# Altium schematic symbol library 51Schlib.SchLib: 24 symbols
Pins are listed as number, name and electrical type; pins without a type are passive.

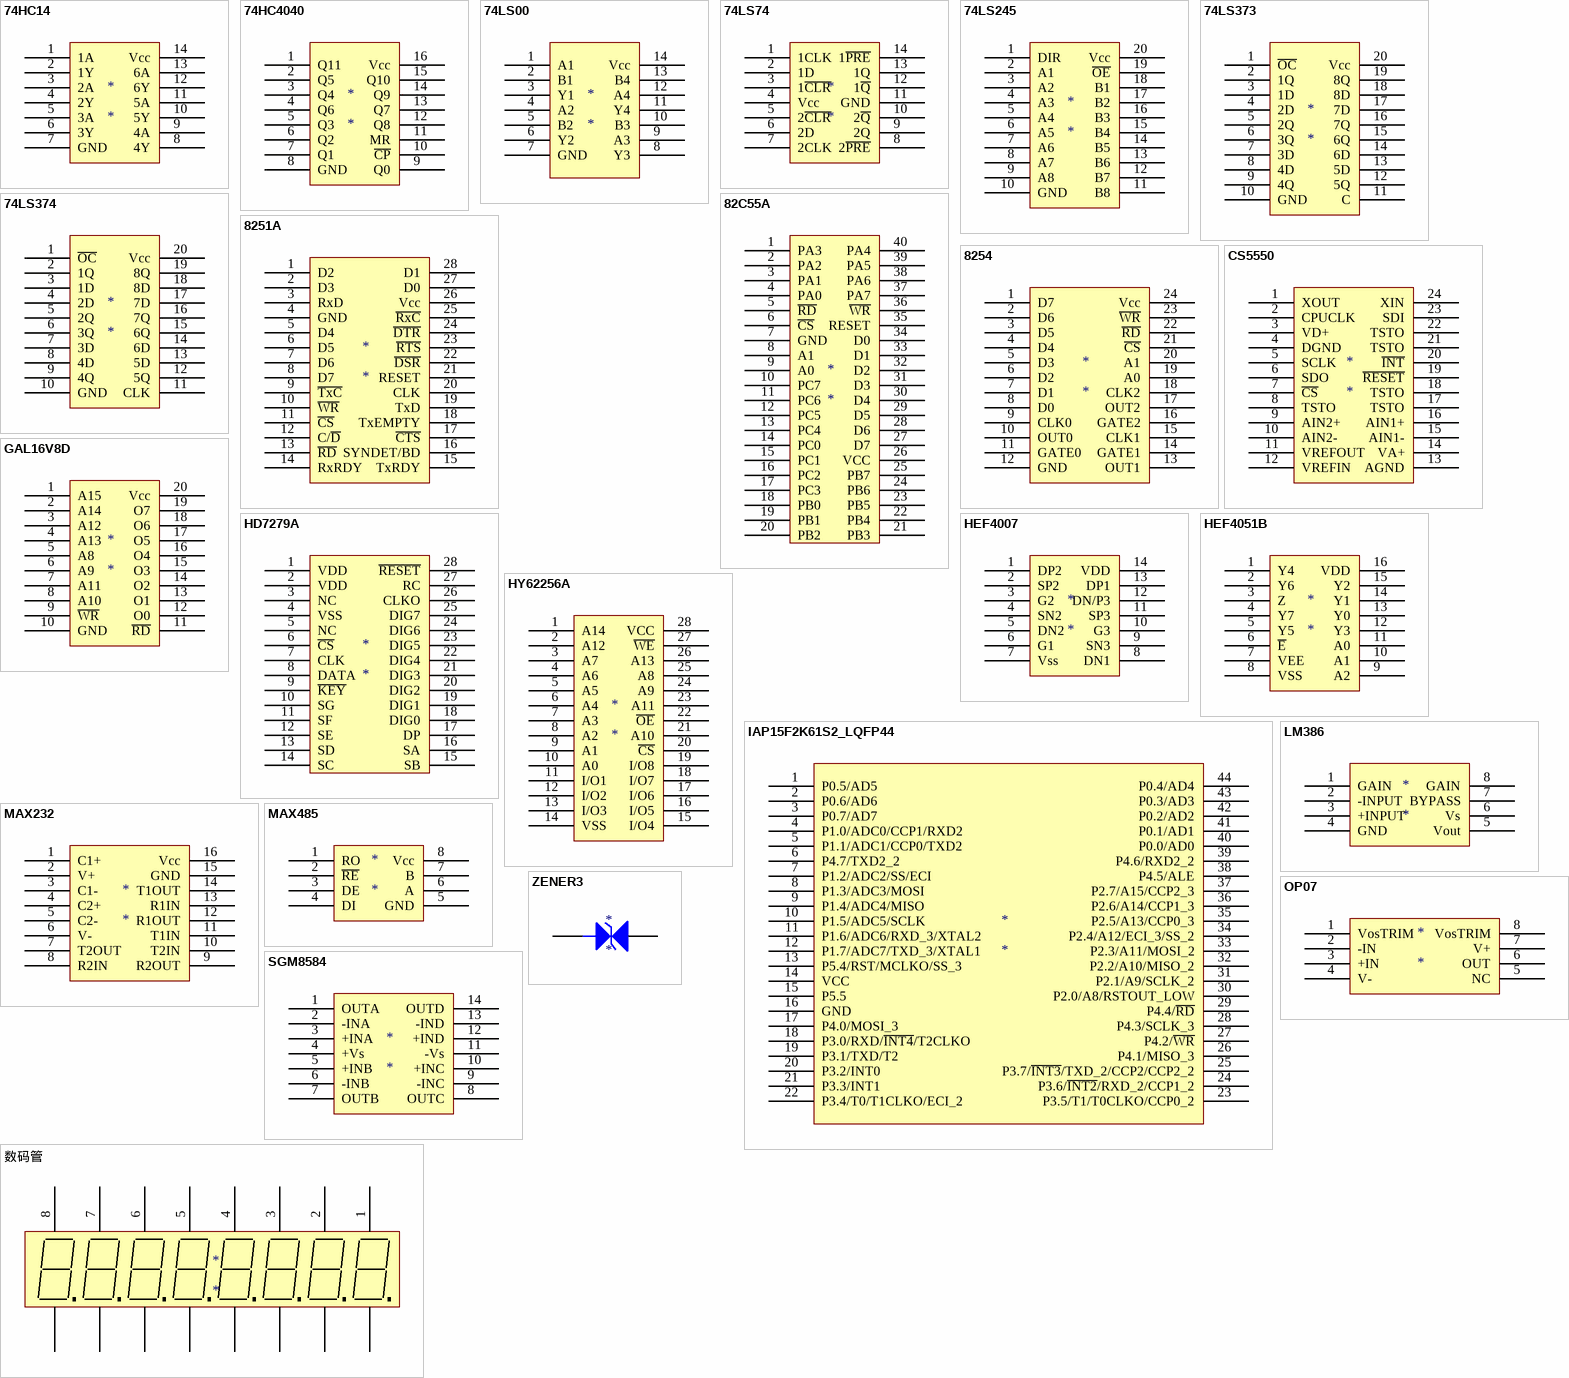
[diagram p0: symbols 74HC14 to 数码管]

## 74HC14
designator *
pins: 1 1A, 2 1Y, 3 2A, 4 2Y, 5 3A, 6 3Y, 7 GND, 8 4Y, 9 4A, 10 5Y, 11 5A, 12 6Y, 13 6A, 14 Vcc

## 74HC4040
designator *
pins: 1 Q11, 2 Q5, 3 Q4, 4 Q6, 5 Q3, 6 Q2, 7 Q1, 8 GND, 9 Q0, 10 ~{CP}, 11 MR, 12 Q8, 13 Q7, 14 Q9, 15 Q10, 16 Vcc

## 74LS00
designator *
pins: 1 A1, 2 B1, 3 Y1, 4 A2, 5 B2, 6 Y2, 7 GND, 8 Y3, 9 A3, 10 B3, 11 Y4, 12 A4, 13 B4, 14 Vcc

## 74LS74
designator *
pins: 1 1CLK, 2 1D, 3 1~{CLR}, 4 Vcc, 5 2~{CLR}, 6 2D, 7 2CLK, 8 2~{PRE}, 9 2Q, 10 2~{Q}, 11 GND, 12 1~{Q}, 13 1Q, 14 1~{PRE}

## 74LS245
designator *
pins: 1 DIR, 2 A1, 3 A2, 4 A3, 5 A4, 6 A5, 7 A6, 8 A7, 9 A8, 10 GND, 11 B8, 12 B7, 13 B6, 14 B5, 15 B4, 16 B3, 17 B2, 18 B1, 19 ~{OE}, 20 Vcc

## 74LS373
designator *
pins: 1 ~{OC}, 2 1Q, 3 1D, 4 2D, 5 2Q, 6 3Q, 7 3D, 8 4D, 9 4Q, 10 GND, 11 C, 12 5Q, 13 5D, 14 6D, 15 6Q, 16 7Q, 17 7D, 18 8D, 19 8Q, 20 Vcc

## 74LS374
designator *
pins: 1 ~{OC}, 2 1Q, 3 1D, 4 2D, 5 2Q, 6 3Q, 7 3D, 8 4D, 9 4Q, 10 GND, 11 CLK, 12 5Q, 13 5D, 14 6D, 15 6Q, 16 7Q, 17 7D, 18 8D, 19 8Q, 20 Vcc

## 82C55A
designator *
pins: 1 PA3, 2 PA2, 3 PA1, 4 PA0, 5 ~{RD}, 6 ~{CS}, 7 GND, 8 A1, 9 A0, 10 PC7, 11 PC6, 12 PC5, 13 PC4, 14 PC0, 15 PC1, 16 PC2, 17 PC3, 18 PB0, 19 PB1, 20 PB2, 21 PB3, 22 PB4, 23 PB5, 24 PB6, 25 PB7, 26 VCC, 27 D7, 28 D6, 29 D5, 30 D4, 31 D3, 32 D2, 33 D1, 34 D0, 35 RESET, 36 ~{WR}, 37 PA7, 38 PA6, 39 PA5, 40 PA4

## 8251A
designator *
pins: 1 D2, 2 D3, 3 RxD, 4 GND, 5 D4, 6 D5, 7 D6, 8 D7, 9 ~{TxC}, 10 ~{WR}, 11 ~{CS}, 12 C/~{D}, 13 ~{RD}, 14 RxRDY, 15 TxRDY, 16 SYNDET/BD, 17 ~{CTS}, 18 TxEMPTY, 19 TxD, 20 CLK, 21 RESET, 22 ~{DSR}, 23 ~{RTS}, 24 ~{DTR}, 25 ~{RxC}, 26 Vcc, 27 D0, 28 D1

## 8254
designator *
pins: 1 D7, 2 D6, 3 D5, 4 D4, 5 D3, 6 D2, 7 D1, 8 D0, 9 CLK0, 10 OUT0, 11 GATE0, 12 GND, 13 OUT1, 14 GATE1, 15 CLK1, 16 GATE2, 17 OUT2, 18 CLK2, 19 A0, 20 A1, 21 ~{CS}, 22 ~{RD}, 23 ~{WR}, 24 Vcc

## CS5550
designator *
pins: 1 XOUT, 2 CPUCLK, 3 VD+, 4 DGND, 5 SCLK, 6 SDO, 7 ~{CS}, 8 TSTO, 9 AIN2+, 10 AIN2-, 11 VREFOUT, 12 VREFIN, 13 AGND, 14 VA+, 15 AIN1-, 16 AIN1+, 17 TSTO, 18 TSTO, 19 ~{RESET}, 20 ~{INT}, 21 TSTO, 22 TSTO, 23 SDI, 24 XIN

## GAL16V8D
designator *
pins: 1 A15, 2 A14, 3 A12, 4 A13, 5 A8, 6 A9, 7 A11, 8 A10, 9 ~{WR}, 10 GND, 11 ~{RD}, 12 O0, 13 O1, 14 O2, 15 O3, 16 O4, 17 O5, 18 O6, 19 O7, 20 Vcc

## HD7279A
designator *
pins: 1 VDD, 2 VDD, 3 NC, 4 VSS, 5 NC, 6 ~{CS}, 7 CLK, 8 DATA, 9 ~{KEY}, 10 SG, 11 SF, 12 SE, 13 SD, 14 SC, 15 SB, 16 SA, 17 DP, 18 DIG0, 19 DIG1, 20 DIG2, 21 DIG3, 22 DIG4, 23 DIG5, 24 DIG6, 25 DIG7, 26 CLKO, 27 RC, 28 ~{RESET}

## HEF4007
designator *
pins: 1 DP2, 2 SP2, 3 G2, 4 SN2, 5 DN2, 6 G1, 7 Vss, 8 DN1, 9 SN3, 10 G3, 11 SP3, 12 DN/P3, 13 DP1, 14 VDD

## HEF4051B
designator *
pins: 1 Y4, 2 Y6, 3 Z, 4 Y7, 5 Y5, 6 ~{E}, 7 VEE, 8 VSS, 9 A2, 10 A1, 11 A0, 12 Y3, 13 Y0, 14 Y1, 15 Y2, 16 VDD

## HY62256A
designator *
pins: 1 A14, 2 A12, 3 A7, 4 A6, 5 A5, 6 A4, 7 A3, 8 A2, 9 A1, 10 A0, 11 I/O1, 12 I/O2, 13 I/O3, 14 VSS, 15 I/O4, 16 I/O5, 17 I/O6, 18 I/O7, 19 I/O8, 20 ~{CS}, 21 A10, 22 ~{OE}, 23 A11, 24 A9, 25 A8, 26 A13, 27 ~{WE}, 28 VCC

## IAP15F2K61S2_LQFP44
designator *
pins: 1 P0.5/AD5, 2 P0.6/AD6, 3 P0.7/AD7, 4 P1.0/ADC0/CCP1/RXD2, 5 P1.1/ADC1/CCP0/TXD2, 6 P4.7/TXD2_2, 7 P1.2/ADC2/SS/ECI, 8 P1.3/ADC3/MOSI, 9 P1.4/ADC4/MISO, 10 P1.5/ADC5/SCLK, 11 P1.6/ADC6/RXD_3/XTAL2, 12 P1.7/ADC7/TXD_3/XTAL1, 13 P5.4/RST/MCLKO/SS_3, 14 VCC, 15 P5.5, 16 GND, 17 P4.0/MOSI_3, 18 P3.0/RXD/~{INT4}/T2CLKO, 19 P3.1/TXD/T2, 20 P3.2/INT0, 21 P3.3/INT1, 22 P3.4/T0/T1CLKO/ECI_2, 23 P3.5/T1/T0CLKO/CCP0_2, 24 P3.6/~{INT2}/RXD_2/CCP1_2, 25 P3.7/~{INT3}/TXD_2/CCP2/CCP2_2, 26 P4.1/MISO_3, 27 P4.2/~{WR}, 28 P4.3/SCLK_3, 29 P4.4/~{RD}, 30 P2.0/A8/RSTOUT_LOW, 31 P2.1/A9/SCLK_2, 32 P2.2/A10/MISO_2, 33 P2.3/A11/MOSI_2, 34 P2.4/A12/ECI_3/SS_2, 35 P2.5/A13/CCP0_3, 36 P2.6/A14/CCP1_3, 37 P2.7/A15/CCP2_3, 38 P4.5/ALE, 39 P4.6/RXD2_2, 40 P0.0/AD0, 41 P0.1/AD1, 42 P0.2/AD2, 43 P0.3/AD3, 44 P0.4/AD4

## LM386
designator *
pins: 1 GAIN, 2 -INPUT, 3 +INPUT, 4 GND, 5 Vout, 6 Vs, 7 BYPASS, 8 GAIN

## MAX232
designator *
pins: 1 C1+, 2 V+, 3 C1-, 4 C2+, 5 C2-, 6 V-, 7 T2OUT, 8 R2IN, 9 R2OUT, 10 T2IN, 11 T1IN, 12 R1OUT, 13 R1IN, 14 T1OUT, 15 GND, 16 Vcc

## MAX485
designator *
pins: 1 RO, 2 ~{RE}, 3 DE, 4 DI, 5 GND, 6 A, 7 B, 8 Vcc

## OP07
designator *
pins: 1 VosTRIM, 2 -IN, 3 +IN, 4 V-, 5 NC, 6 OUT, 7 V+, 8 VosTRIM

## SGM8584
designator *
pins: 1 OUTA, 2 -INA, 3 +INA, 4 +Vs, 5 +INB, 6 -INB, 7 OUTB, 8 OUTC, 9 -INC, 10 +INC, 11 -Vs, 12 +IND, 13 -IND, 14 OUTD

## ZENER3
designator *
pins: 1 A, 2 K

## 数码管
designator *
pins: 1, 2, 3, 4, 5, 6, 7, 8, ?1, ?2, ?3, ?4, ?5, ?6, ?7, ?8